# EAGLE library part UE27-AC54-100 (library TAStm32_v4)
USB Connectors 4P R/A PCB Recpt Source: Datasheet <https://www.mouser.com.tr/datasheet/2/18/UE27ACX4X0X-45641.pdf>
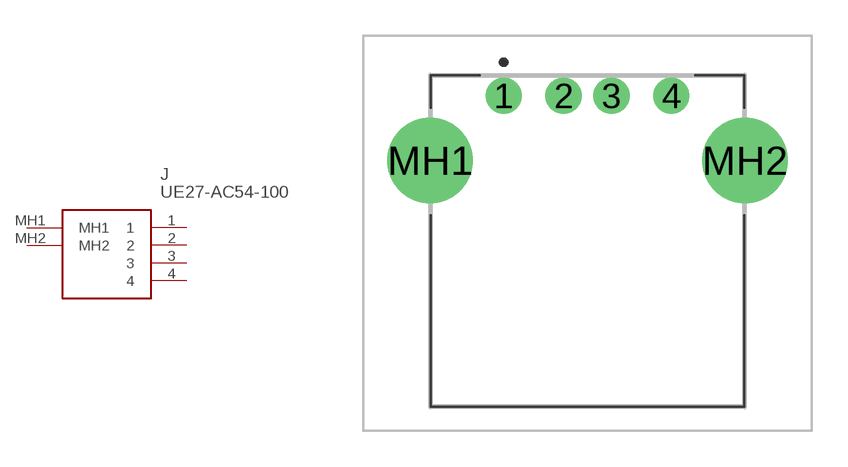
[diagram p6: symbol with the pads of UE27AC54100; footprint UE27AC54100]

Designator prefix J

## UE27-AC54-100 (DESCRIPTION: USB Connectors 4P R/A PCB Recpt; HEIGHT: 6.9mm; MANUFACTURER_NAME: Amphenol; MANUFACTURER_PART_NUMBER: UE27-AC54-100; MOUSER_PART_NUMBER: 523-UE27-AC54-100; MOUSER_PRICE-STOCK: https://www.mouser.co.uk/ProductDetail/Amphenol-Commercial-Products/UE27-AC54-100?qs=rJxDu3iMzY11Oq3QSy%252BXOA%3D%3D)  [UE27AC54100]
1  1
2  2
3  3
4  4
MH1  MH1
MH2  MH2

## Footprint UE27AC54100 (pad centres in mm)
UE27-AC54-100-2
drill 1 pad 1.5: 1 -3.5,0; 2 -1,0; 3 1,0; 4 3.5,0
drill 2.38 pad 3.57: MH1 -6.57,-2.71; MH2 6.57,-2.71